# EAGLE library part AD822 (library lmc6082n)
Single-Supply, Rail-to-Rail Low Power FET-Input Op Amp Source: http://www.ti.com/lit/ds/symlink/lmc6062.pdf
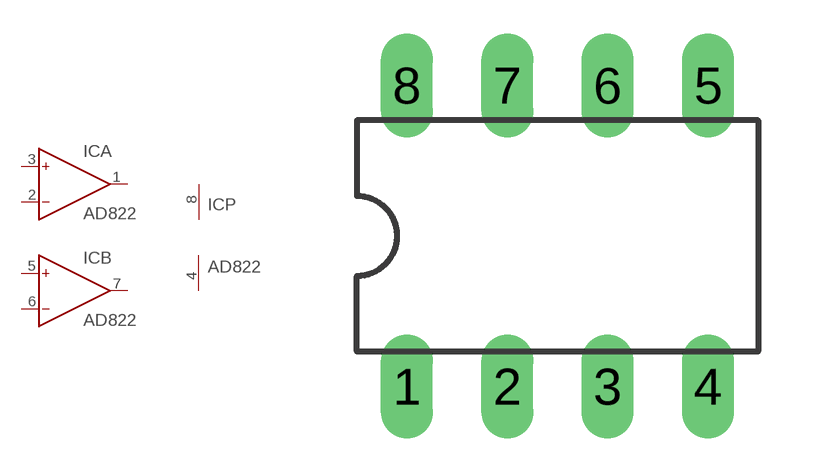
[diagram p0: symbol with the pads of DIL08; footprint DIL08]

Designator prefix IC; gates A=OP B=OP P=PWR+-

## AD822IN (OC_FARNELL: unknown; OC_NEWARK: 41K2618)  [DIL08]
1  A:OUT  out
2  A:IN-  in
3  A:IN+  in
4  P:V-  pwr
5  B:IN+  in
6  B:IN-  in
7  B:OUT  out
8  P:V+  pwr

## Footprint DIL08 (pad centres in mm)
Dual In Line Package
drill 0.813 long: 1 -3.81,-3.81; 2 -1.27,-3.81; 3 1.27,-3.81; 4 3.81,-3.81; 5 3.81,3.81; 6 1.27,3.81; 7 -1.27,3.81; 8 -3.81,3.81